# Altium integrated library SAMTEC-SSQ-104-02-X-S-RA.IntLib: 1 symbol
Pins are listed as number, name and electrical type; pins without a type are passive.

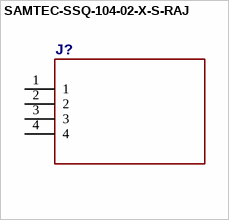
[diagram p0: symbol SAMTEC-SSQ-104-02-X-S-RAJ]

## SAMTEC-SSQ-104-02-X-S-RAJ
designator J?
GateName_1: A; SymbolName_1: SAMTEC-SSQ-104-02-X-S-RAA; DeviceName: J; DeviceSetName: SAMTEC-SSQ-104-02-X-S-RA; LibraryName: SAMTEC-SSQ-104-02-X-S-RA; Package: SAMTEC-SSQ-104-02-X-S-RA
footprint SAMTEC-SSQ-104-02-X-S-RA
pins: 1, 2, 3, 4